# Altium schematic symbol library MergenElektronik_Capacitors_Ceramics_SMDs.SchLib: 17 symbols
Pins are listed as number, name and electrical type; pins without a type are passive.

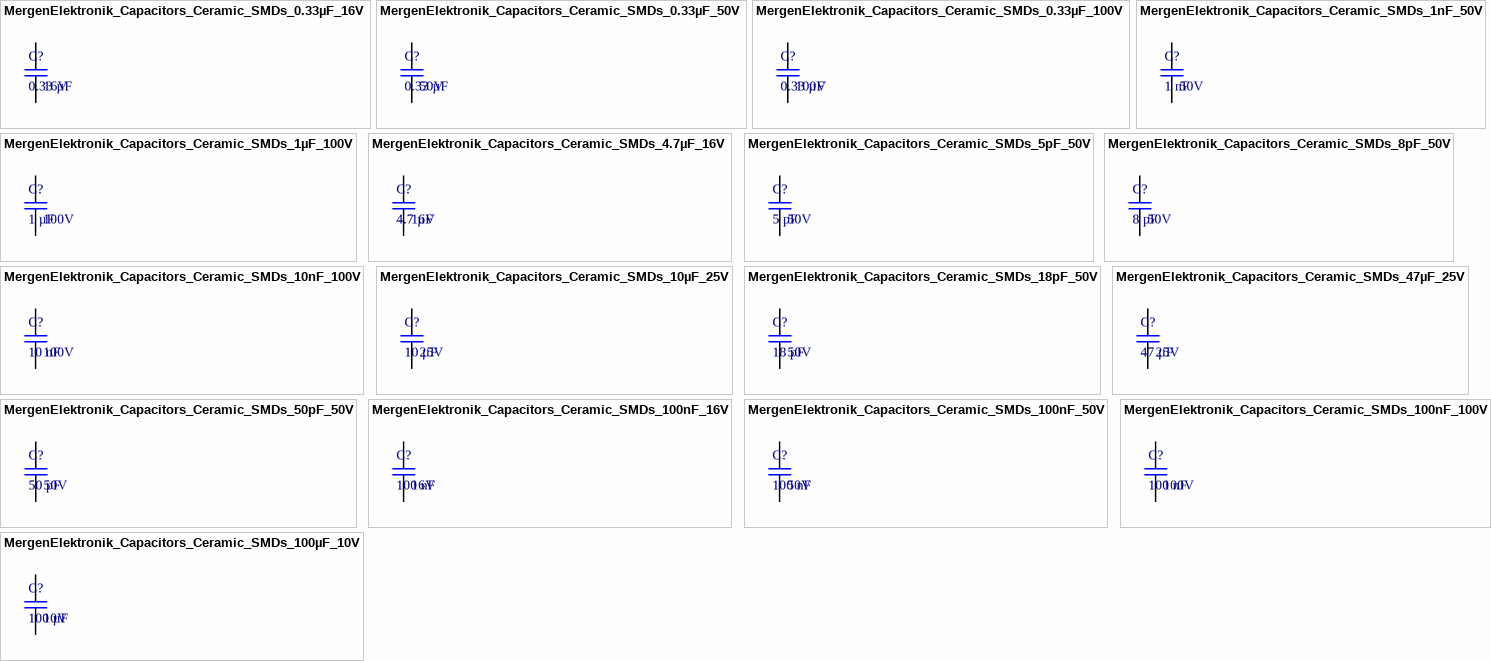
[diagram p0: symbols MergenElektronik_Capacitors_Ceramic_SMDs_0.33µF_16V to MergenElektronik_Capacitors_Ceramic_SMDs_100µF_10V]

## MergenElektronik_Capacitors_Ceramic_SMDs_0.33µF_16V
designator C?, comment 0.33 µF  Voltage Rating: 16V
Mergen Elektronik - Capacitors - Ceramics - SMDs - 0603 - 0.33 µF - 16V; Manufacturer: Samsung Electro-Mechanics; Manufacturer Number: CL10B334KO8NNNC; Model: Ceramic Capacitors; Tolerance: ±10%; Value: 0.33 µF; Temperature: -55°C up to +125°C; Digi-Key Number: 1276-2048-1-ND; Package: 0603(1608); Mouser Number: 187-CL10B334KO8NNNC; Mounting Type: Surface Mount; Supplier 1: Digi-Key; Supplier 2: Mouser; Supplier Part Number 1: 1276-2048-6-ND; Supplier Part Number 2: 187-CL10B334KO8NNNC; Özdisan Number: CL10B334KO8NNNC
footprint MergenElektronik_Capacitors_Ceramics_SMDs_0603_L (0603 Large)
footprint MergenElektronik_Capacitors_Ceramics_SMDs_0603_L_NS (0603 Large - No Silcscreen)
footprint MergenElektronik_Capacitors_Ceramics_SMDs_0603_M (0603 Medium)
footprint MergenElektronik_Capacitors_Ceramics_SMDs_0603_M_NS (0603 Medium - No Silkscreen)
footprint MergenElektronik_Capacitors_Ceramics_SMDs_0603_S (0603 Small)
footprint MergenElektronik_Capacitors_Ceramics_SMDs_0603_S_NS (0603 Small - No Silkscreen)
pins: 1, 2

## MergenElektronik_Capacitors_Ceramic_SMDs_0.33µF_50V
designator C?, comment 0.33 µF  Voltage Rating: 50V
Mergen Elektronik - Capacitors - Ceramics - SMDs - 0603 - 0.33 µF - 50V; Manufacturer: TDK Corporation; Manufacturer Number: C1608X7R1H334K080AC; Model: Ceramic Capacitors; Tolerance: ±10%; Value: 0.33 µF; Temperature: -55°C up to +125°C; Digi-Key Number: 445-5950-1-ND; Package: 0603(1608); Farnell Number: 2346907; Mouser Number: 810-C1608X7R1H334K; Mounting Type: Surface Mount; Supplier 1: Digi-Key; Supplier 2: Mouser; Supplier Part Number 1: 445-5950-1-ND; Supplier Part Number 2: 810-C1608X7R1H334K
footprint MergenElektronik_Capacitors_Ceramics_SMDs_0603_L (0603 Large)
footprint MergenElektronik_Capacitors_Ceramics_SMDs_0603_L_NS (0603 Large - No Silcscreen)
footprint MergenElektronik_Capacitors_Ceramics_SMDs_0603_M (0603 Medium)
footprint MergenElektronik_Capacitors_Ceramics_SMDs_0603_M_NS (0603 Medium - No Silkscreen)
footprint MergenElektronik_Capacitors_Ceramics_SMDs_0603_S (0603 Small)
footprint MergenElektronik_Capacitors_Ceramics_SMDs_0603_S_NS (0603 Small - No Silkscreen)
pins: 1, 2

## MergenElektronik_Capacitors_Ceramic_SMDs_0.33µF_100V
designator C?, comment 0.33 µF  Voltage Rating: 100V
Mergen Elektronik - Capacitors - Ceramics - SMDs - 1206 - 0.33 µF - 100V; Manufacturer: TDK Corporation; Manufacturer Number: C3216X7R2A334K130AA; Model: Ceramic Capacitors; Tolerance: ±10%; Value: 0.33 µF; Temperature: -55°C up to +125°C; Digi-Key Number: 445-4464-1-ND; Package: 1206(3216 Metric); Mouser Number: 810-C3216X7R2A334K; Mounting Type: Surface Mount; Farnell Number: 2525186; Supplier 1: Digikey; Supplier 2: Mouser; Supplier Part Number 1: 445-4464-6-ND; Supplier Part Number 2: 810-C3216X7R2A334K
footprint MergenElektronik_Capacitors_Ceramics_SMDs_1206_L (1206 Large)
footprint MergenElektronik_Capacitors_Ceramics_SMDs_1206_L_NS (1206 Large - No Silkscreen)
footprint MergenElektronik_Capacitors_Ceramics_SMDs_1210_M (1210 Medium)
footprint MergenElektronik_Capacitors_Ceramics_SMDs_1206_M_NS (1206 Medium - No Silkscreen)
footprint MergenElektronik_Capacitors_Ceramics_SMDs_1206_S (1206 Small)
footprint MergenElektronik_Capacitors_Ceramics_SMDs_1206_S_NS (1206 Small - No Silkscreen)
pins: 1, 2

## MergenElektronik_Capacitors_Ceramic_SMDs_1nF_50V
designator C?, comment 1 nF  Voltage Rating: 50V
Mergen Elektronik - Capacitors - Ceramics - SMDs - 0402 - 1 nF - 50V; Manufacturer: Murata Electronics; Manufacturer Number: GRM1555C1H102JA01D; Model: Ceramic Capacitors; Tolerance: ±5%; Value: 1 nF; Temperature: -55°C up to +125°C; Digi-Key Number: 490-3244-1-ND; Package: 0402(1005 Metric); Mouser Number: 81-GRM1555C1H102JA1D; Mounting Type: Surface Mount; Farnell Number: 8819556; Özdisan Number: GRM1555C1H102JA01D; Supplier 1: Digikey; Supplier 2: Mouser; Supplier Part Number 1: 490-3244-1-ND; Supplier Part Number 2: 81-GRM1555C1H102JA1D
footprint MergenElektronik_Capacitors_Ceramics_SMDs_0402_L (0402 Large)
footprint MergenElektronik_Capacitors_Ceramics_SMDs_0402_L_NS (0402 Large - No Silkscreen)
footprint MergenElektronik_Capacitors_Ceramics_SMDs_0402_M (0402 Medium)
footprint MergenElektronik_Capacitors_Ceramics_SMDs_0402_M_NS (0402 Medium - No Silkscreen)
footprint MergenElektronik_Capacitors_Ceramics_SMDs_0402_S (0402 Small)
footprint MergenElektronik_Capacitors_Ceramics_SMDs_0402_S_NS (0402 Small - No Silkscreen)
pins: 1, 2

## MergenElektronik_Capacitors_Ceramic_SMDs_1µF_100V
designator C?, comment 1 µF  Voltage Rating: 100V
Mergen Elektronik - Capacitors - Ceramics - SMDs - 1206 - 1 µF - 100V; Manufacturer: Samsung Electro-Mechanics; Manufacturer Number: CL31B105KCHNNNE; Model: Ceramic Capacitors; Tolerance: ±10%; Value: 1 µF; Temperature: -55°C up to +125°C; Digi-Key Number: 1276-1838-1-ND; Package: 1206(3216 Metric); Mouser Number: 187-CL31B105KCHNNNE; Mounting Type: Surface Mount; Özdisan Number: CL31B105KCHNNNE; Supplier 1: Digikey; Supplier 2: Mouser; Supplier Part Number 1: 1276-1838-1-ND; Supplier Part Number 2: 187-CL31B105KCHNNNE
footprint MergenElektronik_Capacitors_Ceramics_SMDs_1206_L (1206 Large)
footprint MergenElektronik_Capacitors_Ceramics_SMDs_1206_L_NS (1206 Large - No Silkscreen)
footprint MergenElektronik_Capacitors_Ceramics_SMDs_1206_M_NS (1206 Medium - No Silkscreen)
footprint MergenElektronik_Capacitors_Ceramics_SMDs_1206_S (1206 Small)
footprint MergenElektronik_Capacitors_Ceramics_SMDs_1206_S_NS (1206 Small - No Silkscreen)
footprint MergenElektronik_Capacitors_Ceramics_SMDs_1206_M (1206 Medium)
pins: 1, 2

## MergenElektronik_Capacitors_Ceramic_SMDs_4.7µF_16V
designator C?, comment 4.7 µF  Voltage Rating: 16V
Mergen Elektronik - Capacitors - Ceramics - SMDs - 0603 - 4.7 µF - 16V; Manufacturer: Samsung Electro-Mechanics; Manufacturer Number: CL10A475KO8NNNC; Model: Ceramic Capacitors; Tolerance: ±10%; Value: 4.7 µF; Temperature: -55°C up to +85°C; Digi-Key Number: 1276-1784-2-ND; Package: 0603(1608); Mouser Number: 187-CL10A475KO8NNNC; Mounting Type: Surface Mount; Supplier 1: Digi-Key; Supplier 2: Mouser; Supplier Part Number 1: 1276-1784-2-ND; Supplier Part Number 2: 187-CL10A475KO8NNNC; Özdisan Number: CL10A475KO8NNNC; Farnell Number: 3013397
footprint MergenElektronik_Capacitors_Ceramics_SMDs_0603_L (0603 Large)
footprint MergenElektronik_Capacitors_Ceramics_SMDs_0603_L_NS (0603 Large - No Silcscreen)
footprint MergenElektronik_Capacitors_Ceramics_SMDs_0603_M (0603 Medium)
footprint MergenElektronik_Capacitors_Ceramics_SMDs_0603_M_NS (0603 Medium - No Silkscreen)
footprint MergenElektronik_Capacitors_Ceramics_SMDs_0603_S (0603 Small)
footprint MergenElektronik_Capacitors_Ceramics_SMDs_0603_S_NS (0603 Small - No Silkscreen)
pins: 1, 2

## MergenElektronik_Capacitors_Ceramic_SMDs_5pF_50V
designator C?, comment 5 pF  Voltage Rating: 50V
Mergen Elektronik - Capacitors - Ceramics - SMDs - 0603 - 5 pF - 50V; Manufacturer: Samsung Electro-Mechanics; Manufacturer Number: CL10C050CB81PNC; Model: Ceramic Capacitors; Tolerance: ±0.25 pF; Value: 5 pF; Temperature: -55°C up to +125°C; Digi-Key Number: 1276-7005-2-ND; Package: 0603(1608); Mouser Number: 187-CL10C050CB81PNC; Mounting Type: Surface Mount; Supplier 1: Digi-Key; Supplier 2: Mouser; Supplier Part Number 1: 1276-7005-2-ND; Supplier Part Number 2: 187-CL10C050CB81PNC; Özdisan Number: CL10C050CB81PNC
footprint MergenElektronik_Capacitors_Ceramics_SMDs_0603_L (0603 Large)
footprint MergenElektronik_Capacitors_Ceramics_SMDs_0603_L_NS (0603 Large - No Silcscreen)
footprint MergenElektronik_Capacitors_Ceramics_SMDs_0603_M (0603 Medium)
footprint MergenElektronik_Capacitors_Ceramics_SMDs_0603_M_NS (0603 Medium - No Silkscreen)
footprint MergenElektronik_Capacitors_Ceramics_SMDs_0603_S (0603 Small)
footprint MergenElektronik_Capacitors_Ceramics_SMDs_0603_S_NS (0603 Small - No Silkscreen)
pins: 1, 2

## MergenElektronik_Capacitors_Ceramic_SMDs_8pF_50V
designator C?, comment 8 pF  Voltage Rating: 50V
Mergen Elektronik - Capacitors - Ceramics - SMDs - 0603 - 8 pF - 50V; Manufacturer: YAGEO; Manufacturer Number: CC0603DRNPO9BN8R0; Model: Ceramic Capacitors; Tolerance: ±0.5pF; Value: 8 pF; Temperature: -55°C up to +125°C; Digi-Key Number: 311-1057-1-ND; Package: 0603(1608); Mouser Number: 603-CC603DRNPO9BN8R0; Mounting Type: Surface Mount; Özdisan Number: CC0603DRNPO9BN8R0; Farnell Number: 3764404RL; Supplier 1: Digikey; Supplier 2: Mouser; Supplier Part Number 1: 311-1057-6-ND; Supplier Part Number 2: 603-CC603DRNPO9BN8R0
footprint MergenElektronik_Capacitors_Ceramics_SMDs_0603_L (0603 Large)
footprint MergenElektronik_Capacitors_Ceramics_SMDs_0603_L_NS (0603 Large - No Silcscreen)
footprint MergenElektronik_Capacitors_Ceramics_SMDs_0603_M (0603 Medium)
footprint MergenElektronik_Capacitors_Ceramics_SMDs_0603_M_NS (0603 Medium - No Silkscreen)
footprint MergenElektronik_Capacitors_Ceramics_SMDs_0603_S (0603 Small)
footprint MergenElektronik_Capacitors_Ceramics_SMDs_0603_S_NS (0603 Small - No Silkscreen)
pins: 1, 2

## MergenElektronik_Capacitors_Ceramic_SMDs_10nF_100V
designator C?, comment 10 nF  Voltage Rating: 100V
Mergen Elektronik - Capacitors - Ceramics - SMDs - 0603 - 10 nF - 100V; Manufacturer: Murata Electronics; Manufacturer Number: GCM188R72A103KA37D; Model: Ceramic Capacitors; Tolerance: ±10%; Value: 10 nF; Temperature: -55°C up to +125°C; Digi-Key Number: 490-4781-1-ND; Package: 0603(1608 Metric); Mouser Number: 81-GCM188R72A103KA7D; Mounting Type: Surface Mount; Farnell Number: 2470432; Özdisan Number: GCM188R72A103KA37D; Supplier 1: Digikey; Supplier 2: Mouser; Supplier Part Number 1: 490-4781-1-ND; Supplier Part Number 2: 81-GCM188R72A103KA7D
footprint MergenElektronik_Capacitors_Ceramics_SMDs_0603_L (0603 Large)
footprint MergenElektronik_Capacitors_Ceramics_SMDs_0603_L_NS (0603 Large - No Silkscreen)
footprint MergenElektronik_Capacitors_Ceramics_SMDs_0603_M (0603 Medium)
footprint MergenElektronik_Capacitors_Ceramics_SMDs_0603_M_NS (0603 Medium - No Silkscreen)
footprint MergenElektronik_Capacitors_Ceramics_SMDs_0603_S (0603 Small)
footprint MergenElektronik_Capacitors_Ceramics_SMDs_0603_S_NS (0603 Small - No Silkscreen)
pins: 1, 2

## MergenElektronik_Capacitors_Ceramic_SMDs_10µF_25V
designator C?, comment 10 µF  Voltage Rating: 25V
Mergen Elektronik - Capacitors - Ceramics - SMDs - 0603 - 10 µF - 25V; Manufacturer: Murata Electronics; Manufacturer Number: GRT188R61E106ME13D; Model: Ceramic Capacitors; Tolerance: ±20%; Value: 10 µF; Temperature: -55°C up to +85°C; Digi-Key Number: 490-12323-1-ND; Package: 0603(1608); Farnell Number: 3581819; Mouser Number: 81-GRT188R61E106ME3D; Mounting Type: Surface Mount; Supplier 1: Digi-Key; Supplier 2: Mouser; Supplier Part Number 1: 490-12323-1-ND; Supplier Part Number 2: 81-GRT188R61E106ME3D
footprint MergenElektronik_Capacitors_Ceramics_SMDs_0603_L (0603 Large)
footprint MergenElektronik_Capacitors_Ceramics_SMDs_0603_L_NS (0603 Large - No Silcscreen)
footprint MergenElektronik_Capacitors_Ceramics_SMDs_0603_M (0603 Medium)
footprint MergenElektronik_Capacitors_Ceramics_SMDs_0603_M_NS (0603 Medium - No Silkscreen)
footprint MergenElektronik_Capacitors_Ceramics_SMDs_0603_S (0603 Small)
footprint MergenElektronik_Capacitors_Ceramics_SMDs_0603_S_NS (0603 Small - No Silkscreen)
pins: 1, 2

## MergenElektronik_Capacitors_Ceramic_SMDs_18pF_50V
designator C?, comment 18 pF  Voltage Rating: 50V
Mergen Elektronik - Capacitors - Ceramics - SMDs - 0603 - 18 pF - 50V; Manufacturer: YAGEO; Manufacturer Number: CC0603JRNPO9BN180; Model: Ceramic Capacitors; Tolerance: ±5%; Value: 18 pF; Temperature: -55°C up to +125°C; Digi-Key Number: 311-1061-1-ND; Package: 0603(1608); Farnell Number: 2408496; Mouser Number: 603-CC603JRNPO9BN180; Mounting Type: Surface Mount; Supplier 1: Mouser; Supplier 2: Digi-Key; Supplier Part Number 1: 603-CC603JRNPO9BN180; Supplier Part Number 2: 311-1061-6-ND
footprint MergenElektronik_Capacitors_Ceramics_SMDs_0603_L (0603 Large)
footprint MergenElektronik_Capacitors_Ceramics_SMDs_0603_L_NS (0603 Large - No Silcscreen)
footprint MergenElektronik_Capacitors_Ceramics_SMDs_0603_M (0603 Medium)
footprint MergenElektronik_Capacitors_Ceramics_SMDs_0603_M_NS (0603 Medium - No Silkscreen)
footprint MergenElektronik_Capacitors_Ceramics_SMDs_0603_S (0603 Small)
footprint MergenElektronik_Capacitors_Ceramics_SMDs_0603_S_NS (0603 Small - No Silkscreen)
pins: 1, 2

## MergenElektronik_Capacitors_Ceramic_SMDs_47µF_25V
designator C?, comment 47 µF  Voltage Rating: 25V
Mergen Elektronik - Capacitors - Ceramics - SMDs - 1206 - 47 µF - 25V; Manufacturer: TDK Corporation; Manufacturer Number: C3216X5R1E476M160AC; Model: Ceramic Capacitors; Tolerance: ±20%; Value: 47 µF; Temperature: -55°C up to +85°C; Digi-Key Number: 445-8047-2-ND; Package: 1206(3216); Mouser Number: 810-C3216X5R1E476M; Mounting Type: Surface Mount; Supplier 1: Digi-Key; Supplier 2: Mouser; Supplier Part Number 1: 445-8047-2-ND; Supplier Part Number 2: 810-C3216X5R1E476M; Özdisan Number: C3216X5R1E476M160AC; Farnell Number: 2525172
footprint MergenElektronik_Capacitors_Ceramics_SMDs_1206_L (1206 Large)
footprint MergenElektronik_Capacitors_Ceramics_SMDs_1206_L_NS (1206 Large - No Silkscreen)
footprint MergenElektronik_Capacitors_Ceramics_SMDs_1206_M (1206 Medium)
footprint MergenElektronik_Capacitors_Ceramics_SMDs_1206_M_NS (1206 Medium - No Silkscreen)
footprint MergenElektronik_Capacitors_Ceramics_SMDs_1206_S (1206 Small)
footprint MergenElektronik_Capacitors_Ceramics_SMDs_1206_S_NS (1206 Small - No Silkscreen)
pins: 1, 2

## MergenElektronik_Capacitors_Ceramic_SMDs_50pF_50V
designator C?, comment 50 pF  Voltage Rating: 50V
Mergen Elektronik - Capacitors - Ceramics - SMDs - 0402 - 50 pF - 50V; Manufacturer: YAGEO; Manufacturer Number: CC0402JRNPO9BN500; Model: Ceramic Capacitors; Tolerance: ±5%; Value: 50 pF; Temperature: -55°C up to +125°C; Digi-Key Number: 13-CC0402JRNPO9BN500TR-ND; Package: 0603(1608); Mouser Number: 603-CC0402JNPO9BN500; Mounting Type: Surface Mount; Supplier 1: Digi-Key; Supplier 2: Mouser; Supplier Part Number 1: 13-CC0402JRNPO9BN500TR-ND; Supplier Part Number 2: 603-CC0402JNPO9BN500; Özdisan Number: CC0402JRNPO9BN500
footprint MergenElektronik_Capacitors_Ceramics_SMDs_0402_L (0402 Large)
footprint MergenElektronik_Capacitors_Ceramics_SMDs_0402_L_NS (0402 Large - No Silkscreen)
footprint MergenElektronik_Capacitors_Ceramics_SMDs_0402_M (0402 Medium)
footprint MergenElektronik_Capacitors_Ceramics_SMDs_0402_M_NS (0402 Medium - No Silkscreen)
footprint MergenElektronik_Capacitors_Ceramics_SMDs_0402_S (0402 Small)
footprint MergenElektronik_Capacitors_Ceramics_SMDs_0402_S_NS (0402 Small - No Silkscreen)
pins: 1, 2

## MergenElektronik_Capacitors_Ceramic_SMDs_100nF_16V
designator C?, comment 100 nF  Voltage Rating: 16V
Mergen Elektronik - Capacitors - Ceramics - SMDs - 0603 - 100 nF - 16V; Manufacturer: Samsung Electro-Mechanics; Manufacturer Number: CL10B104KO8NNNC; Model: Ceramic Capacitors; Tolerance: ±10%; Value: 100 nF; Temperature: -55°C up to +125°C; Digi-Key Number: 1276-1005-1-ND; Package: 0603(1608); Mouser Number: 187-CL10B104KO8NNNC; Mounting Type: Surface Mount; Farnell Number: 3013413; Supplier 1: Mouser; Supplier 2: Digi-Key; Supplier Part Number 1: 187-CL10B104KO8NNNC; Supplier Part Number 2: 1276-1005-6-ND; Özdisan Number: CL10B104KO8NNNC
footprint MergenElektronik_Capacitors_Ceramics_SMDs_0603_L (0603 Large)
footprint MergenElektronik_Capacitors_Ceramics_SMDs_0603_L_NS (0603 Large - No Silcscreen)
footprint MergenElektronik_Capacitors_Ceramics_SMDs_0603_M (0603 Medium)
footprint MergenElektronik_Capacitors_Ceramics_SMDs_0603_M_NS (0603 Medium - No Silkscreen)
footprint MergenElektronik_Capacitors_Ceramics_SMDs_0603_S (0603 Small)
footprint MergenElektronik_Capacitors_Ceramics_SMDs_0603_S_NS (0603 Small - No Silkscreen)
pins: 1, 2

## MergenElektronik_Capacitors_Ceramic_SMDs_100nF_50V
designator C?, comment 100 nF  Voltage Rating: 50V
Mergen Elektronik - Capacitors - Ceramics - SMDs - 0603 - 100nf - 50V; Manufacturer: Samsung Electro-Mechanics; Manufacturer Number: CL10B104KB8NNNL; Model: Ceramic Capacitors; Tolerance: ±10%; Value: 100 nF; Temperature: -55°C up to +125°C; Digi-Key Number: 1276-CL10B104KB8NNNLCT-ND; Package: 0603(1608); Mouser Number: 187-CL10B104KB8NNNL; Mounting Type: Surface Mount; Supplier 1: Digi-Key; Supplier 2: Mouser; Supplier Part Number 1: 1276-CL10B104KB8NNNLCT-ND; Supplier Part Number 2: 187-CL10B104KB8NNNL
footprint MergenElektronik_Capacitors_Ceramics_SMDs_0603_L (0603 Large)
footprint MergenElektronik_Capacitors_Ceramics_SMDs_0603_L_NS (0603 Large - No Silcscreen)
footprint MergenElektronik_Capacitors_Ceramics_SMDs_0603_M (0603 Medium)
footprint MergenElektronik_Capacitors_Ceramics_SMDs_0603_M_NS (0603 Medium - No Silkscreen)
footprint MergenElektronik_Capacitors_Ceramics_SMDs_0603_S (0603 Small)
footprint MergenElektronik_Capacitors_Ceramics_SMDs_0603_S_NS (0603 Small - No Silkscreen)
pins: 1, 2

## MergenElektronik_Capacitors_Ceramic_SMDs_100nF_100V
designator C?, comment 100 nF  Voltage Rating: 100V
Mergen Elektronik - Capacitors - Ceramics - SMDs - 0603 - 100 nF - 100V; Manufacturer: Samsung Electro-Mechanics; Manufacturer Number: CL10B104KC8NNNC; Model: Ceramic Capacitors; Tolerance: ±10%; Value: 100 nF; Temperature: -55°C up to +125°C; Digi-Key Number: 1276-6807-1-ND; Package: 0603(1608 Metric); Mouser Number: 187-CL10B104KC8NNNC; Mounting Type: Surface Mount; Farnell Number: 3013412; Özdisan Number: CL10B104KC8NNNC; Supplier 1: Digikey; Supplier 2: Mouser; Supplier Part Number 1: 1276-6807-1-ND; Supplier Part Number 2: 187-CL10B104KC8NNNC
footprint MergenElektronik_Capacitors_Ceramics_SMDs_0603_L (0603 Large)
footprint MergenElektronik_Capacitors_Ceramics_SMDs_0603_L_NS (0603 Large - No Silkscreen)
footprint MergenElektronik_Capacitors_Ceramics_SMDs_0603_M (0603 Medium)
footprint MergenElektronik_Capacitors_Ceramics_SMDs_0603_M_NS (0603 Medium - No Silkscreen)
footprint MergenElektronik_Capacitors_Ceramics_SMDs_0603_S (0603 Small)
footprint MergenElektronik_Capacitors_Ceramics_SMDs_0603_S_NS (0603 Small - No Silkscreen)
pins: 1, 2

## MergenElektronik_Capacitors_Ceramic_SMDs_100µF_10V
designator C?, comment 100 µF  Voltage Rating: 10V
Mergen Elektronik - Capacitors - Ceramics - SMDs - 1210 - 100 µF - 10V; Manufacturer: Samsung Electro-Mechanics; Manufacturer Number: CL32A107MPVNNNE; Model: Ceramic Capacitors; Tolerance: ±20%; Özdisan Number: CL10B104KO8NNNC; Value: 100 µF; Temperature: -55°C up to +85°C; Digi-Key Number: 1276-3364-1-ND; Package: 1210(3225 Metric); Mouser Number: 187-CL32A107MPVNNNE; Mounting Type: Surface Mount; Farnell Number: 1838744; Supplier 1: Mouser; Supplier 2: Digi-Key; Supplier Part Number 1: 187-CL10B104KO8NNNC; Supplier Part Number 2: 1276-1005-6-ND
footprint MergenElektronik_Capacitors_Ceramics_SMDs_1210_L (1210 Large)
footprint MergenElektronik_Capacitors_Ceramics_SMDs_1210_L_NS (1210 Large - No Silkscreen)
footprint MergenElektronik_Capacitors_Ceramics_SMDs_1210_M (1210 Medium)
footprint MergenElektronik_Capacitors_Ceramics_SMDs_1210_M_NS (1210 Medium - No Silkscreen)
footprint MergenElektronik_Capacitors_Ceramics_SMDs_1210_S (1210 Small)
footprint MergenElektronik_Capacitors_Ceramics_SMDs_1210_S_NS (1210 Small -No Silkscreen)
pins: 1, 2